# Altium footprint library XH Connector.PcbLib: 2 footprints
Each footprint in its own frame and in the unit in brackets; x right, y up, seen from the top. Pads: shape width x height; smd on the part's side, far side on the other; paste and mask are expansions set on the pad; w line width, h text height; cw(c..) or ccw(c..) is an arc to the next point about the centre after c.
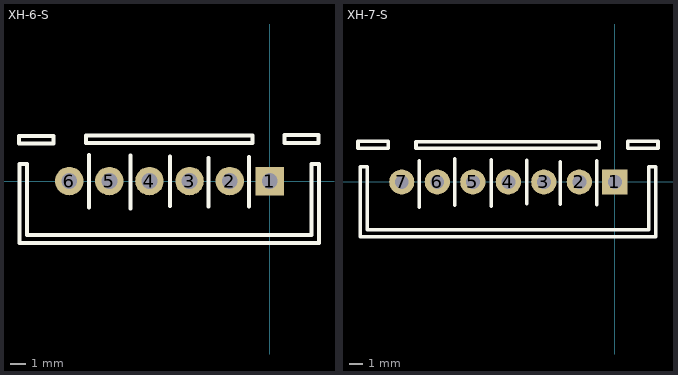
[diagram p0: the footprints below, top view; thin cyan lines are the x and y axes]

## XH-6-S [mil]
pads (6):
  rect 71x71 hole 39.37: 1(0,0)
  round 71 hole 39.37: 2(-100.03,0) 3(-200.07,0) 4(-300.1,0) 5(-400.13,0) 6(-500.17,0)
Top Overlay:
  lines w10: -451.36,-65.53 -451.36,64.65 ; -347.65,-68.88 -347.65,63.08 ; -248.46,-61.79 -248.46,60.62 ; -153.31,-63.17 -153.31,57.07 ; -51.46,-63.96 -51.46,60.22 ; -625.53,93.97 -625.53,112.67 -538.94,112.67 -538.94,93.97 -625.53,93.97 ; -624.15,-154.09 -624.15,42.8 -605.36,42.8 -605.36,-134.61 103.91,-134.61 103.91,42.8 122.8,42.8 122.8,-154.09 -624.15,-154.09 ; -458.94,94.46 -458.94,113.16 -43.39,113.16 -43.39,94.46 -458.94,94.46 ; 36.7,94.37 36.7,114.34 121.72,114.34 121.72,94.37 36.7,94.37

## XH-7-S [mil]
pads (7):
  rect 71x71 hole 39.37: 1(0,0)
  round 71 hole 39.37: 2(-100.03,0) 3(-200.07,0) 4(-300.1,0) 5(-400.13,0) 6(-500.17,0) 7(-600.2,0)
Top Overlay:
  lines w10: -551.36,-70.53 -551.36,59.65 ; -451.36,-65.53 -451.36,64.65 ; -347.65,-68.88 -347.65,63.08 ; -248.46,-61.79 -248.46,60.62 ; -153.31,-63.17 -153.31,57.07 ; -51.46,-63.96 -51.46,60.22 ; -723.46,94.37 -723.46,114.34 -638.45,114.34 -638.45,94.37 -723.46,94.37 ; -717,-154.09 -717,42.8 -697,42.8 -697,-134.61 96,-134.61 96,42.8 116,42.8 116,-154.09 -717,-154.09 ; -560,94.46 -560,113.16 -43.39,113.16 -43.39,94.46 -560,94.46 ; 36.7,94.37 36.7,114.34 121.72,114.34 121.72,94.37 36.7,94.37
Bottom Overlay:
  lines w10: -551.36,-70.53 -551.36,59.65 ; -451.36,-65.53 -451.36,64.65 ; -347.65,-68.88 -347.65,63.08 ; -248.46,-61.79 -248.46,60.62 ; -153.31,-63.17 -153.31,57.07 ; -51.46,-63.96 -51.46,60.22
3D body "User Library-B7B-XH-A.STEP": height 275.59, standoff -133.86, extent -691.83,-133.86 91.63,92.52